# Altium footprint library 890334024005.PcbLib: 1 footprints
Each footprint in its own frame and in the unit in brackets; x right, y up, seen from the top. Pads: shape width x height; smd on the part's side, far side on the other; paste and mask are expansions set on the pad; w line width, h text height; cw(c..) or ccw(c..) is an arc to the next point about the centre after c.
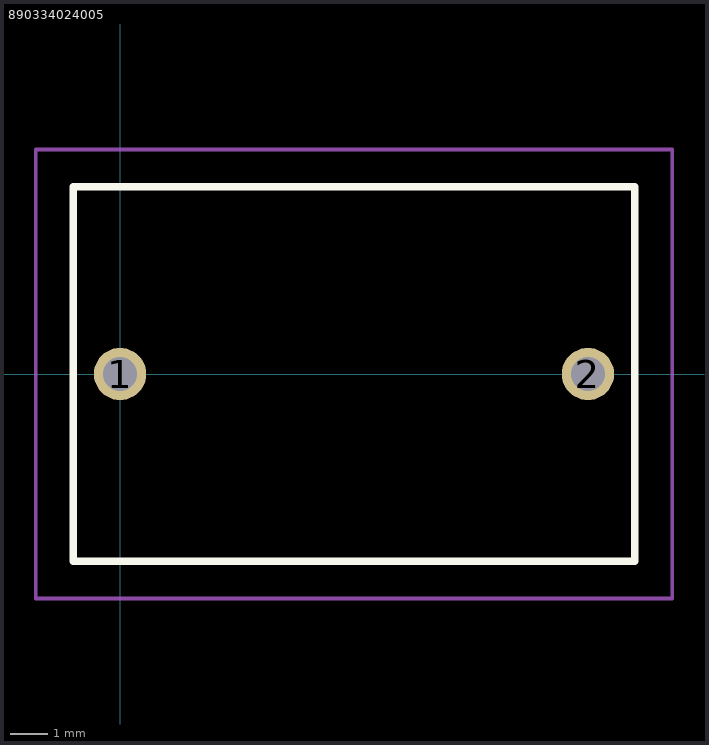
[diagram p0: the footprint, top view; thin cyan lines are the x and y axes]

## 890334024005 [mm]
pads (2):
  round 1.4 hole 0.9: 1(0,0) 2(12.5,0)
Top Overlay:
  lines w0.2: -1.25,-5 13.75,-5 13.75,5 -1.25,5 -1.25,-5
Mechanical 15:
  lines w0.1: -1.25,-5 13.75,-5 13.75,5 -1.25,5 -1.25,-5
Mechanical 20:
  lines w0.1: -2.25,-6 14.75,-6 14.75,6 -2.25,6 -2.25,-6
3D body "890334024005.stp": height 5.8, standoff -4.65, extent -10,-3.376 10,3.376